# EAGLE library part STM32F042G (library stm32f042xx)
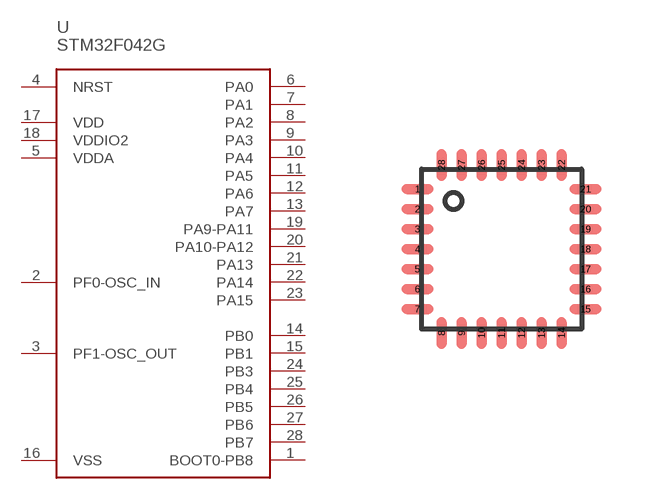
[diagram p0: symbol with the pads of UFQFPN28; footprint UFQFPN28]

Designator prefix -

## STM32F042G  [UFQFPN28]
1  BOOT0-PB8
2  PF0-OSC_IN
3  PF1-OSC_OUT
4  NRST
5  VDDA
6  PA0
7  PA1
8  PA2
9  PA3
10  PA4
11  PA5
12  PA6
13  PA7
14  PB0
15  PB1
16  VSS
17  VDD
18  VDDIO2
19  PA9-PA11
20  PA10-PA12
21  PA13
22  PA14
23  PA15
24  PB3
25  PB4
26  PB5
27  PB6
28  PB7

## Footprint UFQFPN28 (pad centres in mm)
smd 0.8 x 0.25: 1 -2.1,1.5; 2 -2.1,1; 3 -2.1,0.5; 4 -2.1,0; 5 -2.1,-0.5; 6 -2.1,-1; 7 -2.1,-1.5; 15 2.1,-1.5; 16 2.1,-1; 17 2.1,-0.5; 18 2.1,0; 19 2.1,0.5; 20 2.1,1; 21 2.1,1.5
smd 0.25 x 0.8: 8 -1.5,-2.1; 9 -1,-2.1; 10 -0.5,-2.1; 11 0,-2.1; 12 0.5,-2.1; 13 1,-2.1; 14 1.5,-2.1; 22 1.5,2.1; 23 1,2.1; 24 0.5,2.1; 25 0,2.1; 26 -0.5,2.1; 27 -1,2.1; 28 -1.5,2.1